# Altium footprint library Other$.PcbLib: 6 footprints
Each footprint in its own frame and in the unit in brackets; x right, y up, seen from the top. Pads: shape width x height; smd on the part's side, far side on the other; paste and mask are expansions set on the pad; w line width, h text height; cw(c..) or ccw(c..) is an arc to the next point about the centre after c.
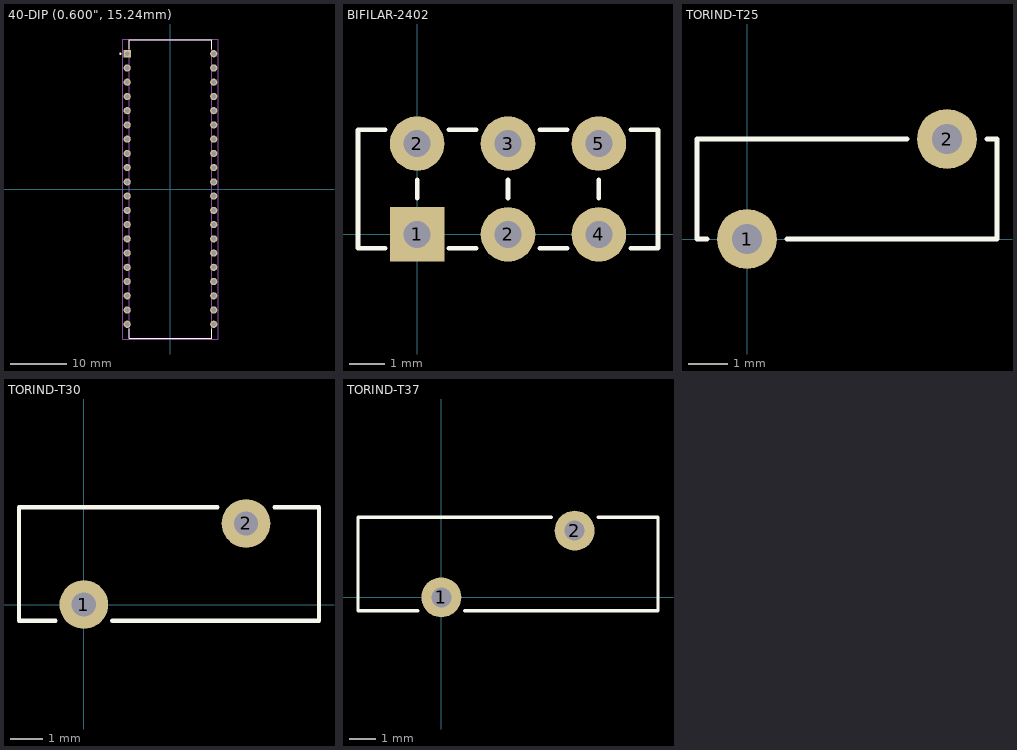
[diagram p0: the footprints below, top view; thin cyan lines are the x and y axes]

## 40-DIP (0.600", 15.24mm) [mm]
pads (40):
  rect 1.28x1.28 hole 0.85: 1(-7.718,24.13)
  round 1.28 hole 0.85: 2(-7.718,21.59) 3(-7.718,19.05) 4(-7.718,16.51) 5(-7.718,13.97) 6(-7.718,11.43) 7(-7.718,8.89) 8(-7.718,6.35) 9(-7.718,3.81) 10(-7.718,1.27) 11(-7.718,-1.27) 12(-7.718,-3.81) 13(-7.718,-6.35) 14(-7.718,-8.89) 15(-7.718,-11.43) 16(-7.718,-13.97) 17(-7.718,-16.51) 18(-7.718,-19.05) 19(-7.718,-21.59) 20(-7.718,-24.13) 21(7.718,-24.13) 22(7.718,-21.59) 23(7.718,-19.05) 24(7.718,-16.51) 25(7.718,-13.97) 26(7.718,-11.43) 27(7.718,-8.89) 28(7.718,-6.35) 29(7.718,-3.81) 30(7.718,-1.27) 31(7.718,1.27) 32(7.718,3.81) 33(7.718,6.35) 34(7.718,8.89) 35(7.718,11.43) 36(7.718,13.97) 37(7.718,16.51) 38(7.718,19.05) 39(7.718,21.59) 40(7.718,24.13)
Top Overlay:
  circle w0.2: c-8.918,24.13 r0.1
  lines w0.127: -7.35,-24.95 -7.35,-26.6 7.35,-26.6 7.35,-24.95 ; -7.35,24.95 -7.35,26.6 7.35,26.6 7.35,24.95
Mechanical 13:
  circle w0.2: c-7.718,24.13 r0.1
  lines w0.127: -7.35,-26.6 7.35,-26.6 7.35,26.6 -7.35,26.6 -7.35,-26.6
Mechanical 15:
  lines w0.05: -8.5,-26.75 8.5,-26.75 8.5,26.75 -8.5,26.75 -8.5,-26.75

## BIFILAR-2402 [mil]
pads (6):
  rect 60x60 hole 30 unplated: 1(0,0)
  round 60 hole 30 unplated: 2(0,100) 2(100,0) 3(100,100) 4(200,0) 5(200,100)
Top Overlay:
  lines w5: -35,-15 -65,-15 -65,115 -35,115 ; 0,40 0,60 ; 35,-15 65,-15 ; 35,115 65,115 ; 100,40 100,60 ; 135,-15 165,-15 ; 135,115 165,115 ; 200,40 200,60 ; 235,-15 265,-15 265,115 235,115

## PCBComponent_1 [mil]

## TORIND-T25 [mil] "Toroidal inductor on T25 core"
height 250
pads (2):
  round 60 hole 30: 1(0,0) 2(200,100)
Top Overlay:
  lines w5: -40,0 -50,0 -50,100 160,100 ; 40,0 250,0 250,100 240,100

## TORIND-T30 [mil] "Toroidal inductor on T30 core"
pads (2):
  round 60 hole 30 unplated: 1(0,0) 2(200,100)
Top Overlay:
  lines w5: -35,-20 -80,-20 -80,120 165,120 ; 35,-20 290,-20 290,120 235,120

## TORIND-T37 [mil] "Toroidal inductor on T37 core"
pads (2):
  round 60 hole 30 unplated: 1(0,0) 2(200,100)
Top Overlay:
  lines w5: -35,-20 -125,-20 -125,120 165,120 ; 35,-20 325,-20 325,120 235,120